# Altium integrated library Linear Technology Power Management LDO Linear Regulators.IntLib: 2339 symbols (part 76 of 131)
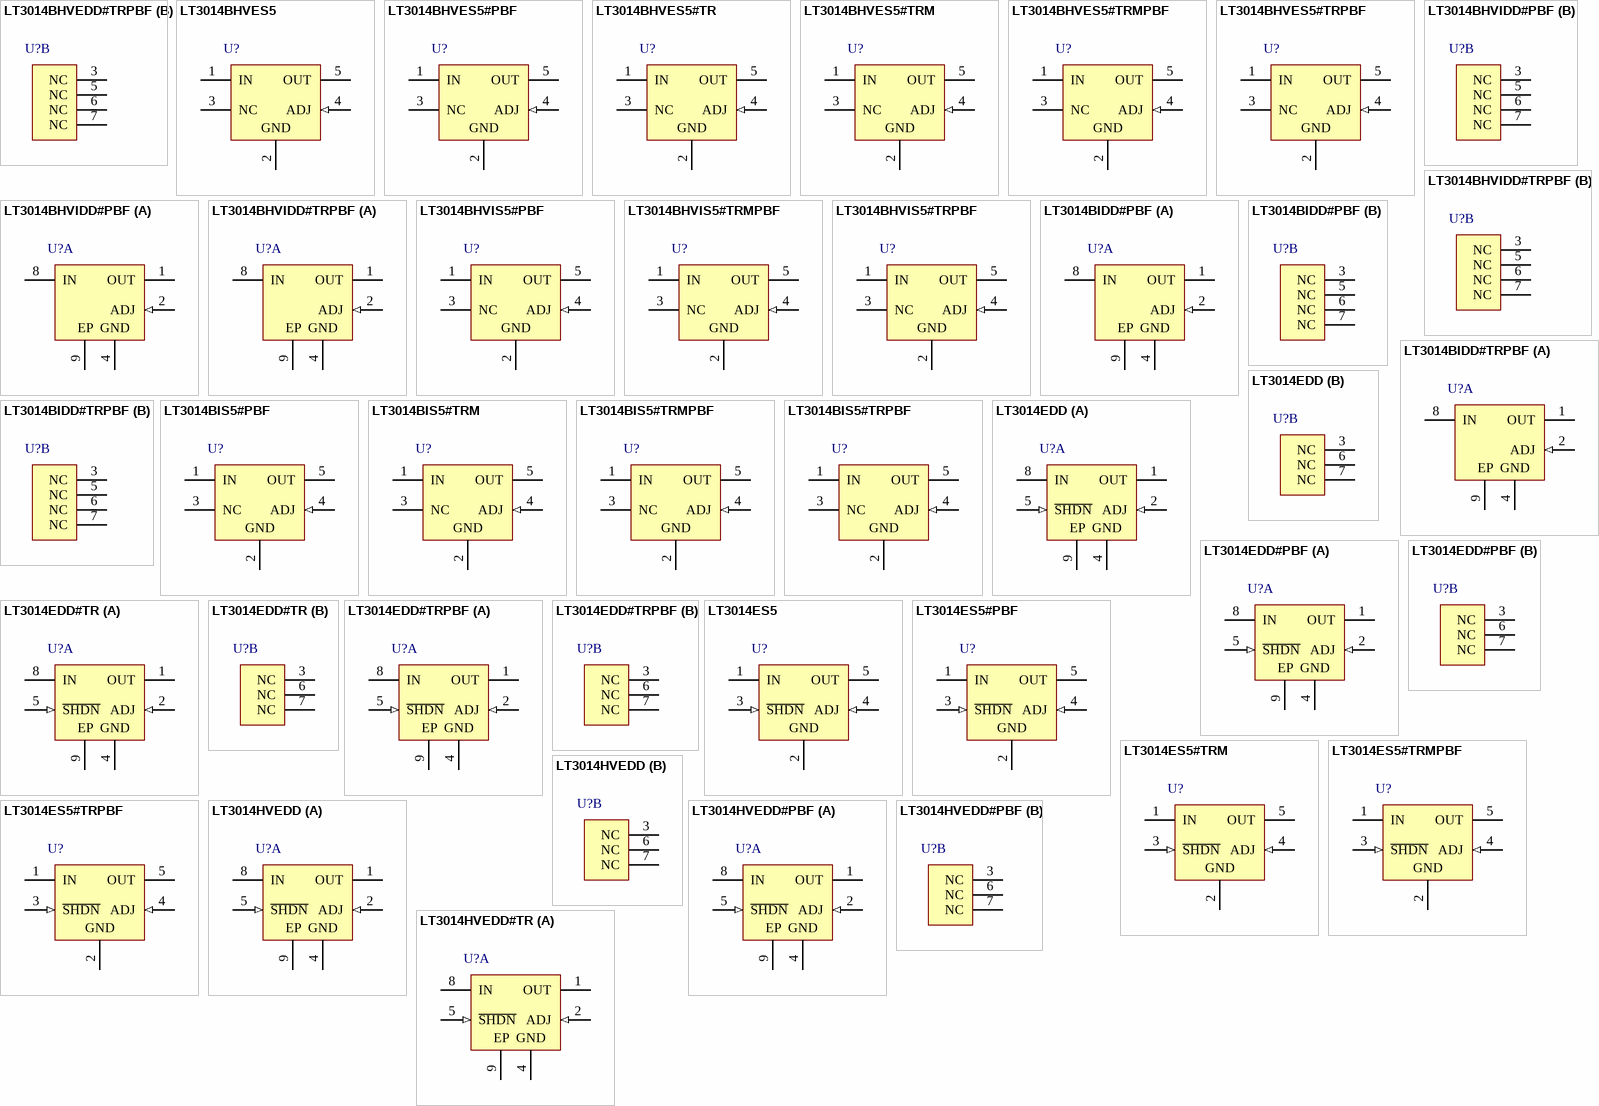
[diagram p144: symbols LT3014BHVEDD#TRPBF to LT3014HVEDD#TR]

## LT3014BHVES5
designator U?
20 mA, Low Dropout Micropower Linear Regulator, 3 to 80 V Vin, Adjustable Vout, 5-pin SOT23 (S5-5), -40 to 125 degC; Manufacturer: Linear Technology; PartNumber: LT3014BHVES5; Discrete Pass Element: no; Dropout Voltage(V): 0.35; Iout(mA): 20; Isupply(mA): 0.007; Noise(uV): 115; Number of Outputs: 1; Output Voltage: Adj; PSRR(dB): 70; Vin Max(V): 80; Vin Min(V): 3; Vout Max(V): 60; Vout Min(V): 1.22; DatasheetVersion: Rev. A; PackageVersion: Jun-10; PackageReference: S5-5; PackageDescription: 5-Pin Plastic TSOT-23, Body 1.63 x 2.90 mm, Pitch 0.95 mm; RoHS: FALSE; Mounting Technology: Surface Mount; Code_JEDEC: MO-193; ComponentLink1Description: Manufacturer URL; ComponentLink1URL: http://www.linear.com/; ComponentLink2Description: Datasheet; ComponentLink2URL: http://cds.linear.com/docs/en/datasheet/3014bfa.pdf; ComponentLink3Description: Package Specification; ComponentLink3URL: http://cds.linear.com/docs/en/packaging/SOT_5_05-08-1635.pdf
footprint LT-S5-5-TSOT-23_N (SOT23, 5-Leads, Body 2.90x1.63mm, Pitch 0.95mm, IPC Medium Density)
footprint LT-S5-5-TSOT-23_L (SOT23, 5-Leads, Body 2.90x1.63mm, Pitch 0.95mm, IPC High Density)
footprint LT-S5-5-TSOT-23_M (SOT23, 5-Leads, Body 2.90x1.63mm, Pitch 0.95mm, IPC Low Density)
pins: 1 IN (power) "Input. Power is supplied to the device through the IN pin. A bypass capacitor is required on this pin if the device is more than six inches away from the main input filter capacitor. In general, the output impedance of a (See Datasheet)", 2 GND (power) "Ground.", 3 NC "No Connect. No Connect pins may be floated, tied to IN or tied to GND.", 4 ADJ (in) "Adjust. This is the input to the error amplifier. This pin is internally clamped to +/-7V. It has a bias current of 4nA which flows into the pin (see curve of ADJ Pin Bias Current vs Temperature in the Typical Performance (See Datasheet)", 5 OUT (power) "Output. The output supplies power to the load. A minimum output capacitor of 0.47uF is required to prevent oscillations. Larger output capacitors will be required for applications with large transient loads to limit peak (See Datasheet)"

## LT3014BHVES5#PBF
designator U?
20 mA, Low Dropout Micropower Linear Regulator, 3 to 80 V Vin, Adjustable Vout, 5-pin SOT23 (S5-5), -40 to 125 degC, Pb-Free; Manufacturer: Linear Technology; PartNumber: LT3014BHVES5#PBF; Discrete Pass Element: no; Dropout Voltage(V): 0.35; Iout(mA): 20; Isupply(mA): 0.007; Noise(uV): 115; Number of Outputs: 1; Output Voltage: Adj; PSRR(dB): 70; Vin Max(V): 80; Vin Min(V): 3; Vout Max(V): 60; Vout Min(V): 1.22; DatasheetVersion: Rev. A; PackageVersion: Jun-10; PackageReference: S5-5; PackageDescription: 5-Pin Plastic TSOT-23, Body 1.63 x 2.90 mm, Pitch 0.95 mm; Supplier 1: Newark; Supplier Part Number 1: 78T3828; RoHS: TRUE; Mounting Technology: Surface Mount; Code_JEDEC: MO-193; ComponentLink1Description: Manufacturer URL; ComponentLink1URL: http://www.linear.com/; ComponentLink2Description: Datasheet; ComponentLink2URL: http://cds.linear.com/docs/en/datasheet/3014bfa.pdf; ComponentLink3Description: Package Specification; ComponentLink3URL: http://cds.linear.com/docs/en/packaging/SOT_5_05-08-1635.pdf
footprint LT-S5-5-TSOT-23_N (SOT23, 5-Leads, Body 2.90x1.63mm, Pitch 0.95mm, IPC Medium Density)
footprint LT-S5-5-TSOT-23_L (SOT23, 5-Leads, Body 2.90x1.63mm, Pitch 0.95mm, IPC High Density)
footprint LT-S5-5-TSOT-23_M (SOT23, 5-Leads, Body 2.90x1.63mm, Pitch 0.95mm, IPC Low Density)
pins: 1 IN (power) "Input. Power is supplied to the device through the IN pin. A bypass capacitor is required on this pin if the device is more than six inches away from the main input filter capacitor. In general, the output impedance of a (See Datasheet)", 2 GND (power) "Ground.", 3 NC "No Connect. No Connect pins may be floated, tied to IN or tied to GND.", 4 ADJ (in) "Adjust. This is the input to the error amplifier. This pin is internally clamped to +/-7V. It has a bias current of 4nA which flows into the pin (see curve of ADJ Pin Bias Current vs Temperature in the Typical Performance (See Datasheet)", 5 OUT (power) "Output. The output supplies power to the load. A minimum output capacitor of 0.47uF is required to prevent oscillations. Larger output capacitors will be required for applications with large transient loads to limit peak (See Datasheet)"

## LT3014BHVES5#TR
designator U?
20 mA, Low Dropout Micropower Linear Regulator, 3 to 80 V Vin, Adjustable Vout, 5-pin SOT23 (S5-5), -40 to 125 degC, Tape and Reel; Manufacturer: Linear Technology; PartNumber: LT3014BHVES5#TR; Discrete Pass Element: no; Dropout Voltage(V): 0.35; Iout(mA): 20; Isupply(mA): 0.007; Noise(uV): 115; Number of Outputs: 1; Output Voltage: Adj; PSRR(dB): 70; Vin Max(V): 80; Vin Min(V): 3; Vout Max(V): 60; Vout Min(V): 1.22; DatasheetVersion: Rev. A; PackageVersion: Jun-10; PackageReference: S5-5; PackageDescription: 5-Pin Plastic TSOT-23, Body 1.63 x 2.90 mm, Pitch 0.95 mm; Packing: Tape and Reel; RoHS: FALSE; Mounting Technology: Surface Mount; Code_JEDEC: MO-193; ComponentLink1Description: Manufacturer URL; ComponentLink1URL: http://www.linear.com/; ComponentLink2Description: Datasheet; ComponentLink2URL: http://cds.linear.com/docs/en/datasheet/3014bfa.pdf; ComponentLink3Description: Package Specification; ComponentLink3URL: http://cds.linear.com/docs/en/packaging/SOT_5_05-08-1635.pdf
footprint LT-S5-5-TSOT-23_N (SOT23, 5-Leads, Body 2.90x1.63mm, Pitch 0.95mm, IPC Medium Density)
footprint LT-S5-5-TSOT-23_L (SOT23, 5-Leads, Body 2.90x1.63mm, Pitch 0.95mm, IPC High Density)
footprint LT-S5-5-TSOT-23_M (SOT23, 5-Leads, Body 2.90x1.63mm, Pitch 0.95mm, IPC Low Density)
pins: 1 IN (power) "Input. Power is supplied to the device through the IN pin. A bypass capacitor is required on this pin if the device is more than six inches away from the main input filter capacitor. In general, the output impedance of a (See Datasheet)", 2 GND (power) "Ground.", 3 NC "No Connect. No Connect pins may be floated, tied to IN or tied to GND.", 4 ADJ (in) "Adjust. This is the input to the error amplifier. This pin is internally clamped to +/-7V. It has a bias current of 4nA which flows into the pin (see curve of ADJ Pin Bias Current vs Temperature in the Typical Performance (See Datasheet)", 5 OUT (power) "Output. The output supplies power to the load. A minimum output capacitor of 0.47uF is required to prevent oscillations. Larger output capacitors will be required for applications with large transient loads to limit peak (See Datasheet)"

## LT3014BHVES5#TRM
designator U?
20 mA, Low Dropout Micropower Linear Regulator, 3 to 80 V Vin, Adjustable Vout, 5-pin SOT23 (S5-5), -40 to 125 degC, Mini Tape and Reel; Manufacturer: Linear Technology; PartNumber: LT3014BHVES5#TRM; Discrete Pass Element: no; Dropout Voltage(V): 0.35; Iout(mA): 20; Isupply(mA): 0.007; Noise(uV): 115; Number of Outputs: 1; Output Voltage: Adj; PSRR(dB): 70; Vin Max(V): 80; Vin Min(V): 3; Vout Max(V): 60; Vout Min(V): 1.22; DatasheetVersion: Rev. A; PackageVersion: Jun-10; PackageReference: S5-5; PackageDescription: 5-Pin Plastic TSOT-23, Body 1.63 x 2.90 mm, Pitch 0.95 mm; Packing: Mini Tape and Reel; RoHS: FALSE; Mounting Technology: Surface Mount; Code_JEDEC: MO-193; ComponentLink1Description: Manufacturer URL; ComponentLink1URL: http://www.linear.com/; ComponentLink2Description: Datasheet; ComponentLink2URL: http://cds.linear.com/docs/en/datasheet/3014bfa.pdf; ComponentLink3Description: Package Specification; ComponentLink3URL: http://cds.linear.com/docs/en/packaging/SOT_5_05-08-1635.pdf
footprint LT-S5-5-TSOT-23_N (SOT23, 5-Leads, Body 2.90x1.63mm, Pitch 0.95mm, IPC Medium Density)
footprint LT-S5-5-TSOT-23_L (SOT23, 5-Leads, Body 2.90x1.63mm, Pitch 0.95mm, IPC High Density)
footprint LT-S5-5-TSOT-23_M (SOT23, 5-Leads, Body 2.90x1.63mm, Pitch 0.95mm, IPC Low Density)
pins: 1 IN (power) "Input. Power is supplied to the device through the IN pin. A bypass capacitor is required on this pin if the device is more than six inches away from the main input filter capacitor. In general, the output impedance of a (See Datasheet)", 2 GND (power) "Ground.", 3 NC "No Connect. No Connect pins may be floated, tied to IN or tied to GND.", 4 ADJ (in) "Adjust. This is the input to the error amplifier. This pin is internally clamped to +/-7V. It has a bias current of 4nA which flows into the pin (see curve of ADJ Pin Bias Current vs Temperature in the Typical Performance (See Datasheet)", 5 OUT (power) "Output. The output supplies power to the load. A minimum output capacitor of 0.47uF is required to prevent oscillations. Larger output capacitors will be required for applications with large transient loads to limit peak (See Datasheet)"

## LT3014BHVES5#TRMPBF
designator U?
20 mA, Low Dropout Micropower Linear Regulator, 3 to 80 V Vin, Adjustable Vout, 5-pin SOT23 (S5-5), -40 to 125 degC, Pb-Free, Mini Tape and Reel; Manufacturer: Linear Technology; PartNumber: LT3014BHVES5#TRMPBF; Discrete Pass Element: no; Dropout Voltage(V): 0.35; Iout(mA): 20; Isupply(mA): 0.007; Noise(uV): 115; Number of Outputs: 1; Output Voltage: Adj; PSRR(dB): 70; Vin Max(V): 80; Vin Min(V): 3; Vout Max(V): 60; Vout Min(V): 1.22; DatasheetVersion: Rev. A; PackageVersion: Jun-10; PackageReference: S5-5; PackageDescription: 5-Pin Plastic TSOT-23, Body 1.63 x 2.90 mm, Pitch 0.95 mm; Supplier 1: Digi-Key; Supplier Part Number 1: LT3014BHVES5#TRMPBF-ND; Supplier 2: Newark; Supplier Part Number 2: 57M7900; Packing: Mini Tape and Reel; RoHS: TRUE; Mounting Technology: Surface Mount; Code_JEDEC: MO-193; ComponentLink1Description: Manufacturer URL; ComponentLink1URL: http://www.linear.com/; ComponentLink2Description: Datasheet; ComponentLink2URL: http://cds.linear.com/docs/en/datasheet/3014bfa.pdf; ComponentLink3Description: Package Specification; ComponentLink3URL: http://cds.linear.com/docs/en/packaging/SOT_5_05-08-1635.pdf
footprint LT-S5-5-TSOT-23_N (SOT23, 5-Leads, Body 2.90x1.63mm, Pitch 0.95mm, IPC Medium Density)
footprint LT-S5-5-TSOT-23_L (SOT23, 5-Leads, Body 2.90x1.63mm, Pitch 0.95mm, IPC High Density)
footprint LT-S5-5-TSOT-23_M (SOT23, 5-Leads, Body 2.90x1.63mm, Pitch 0.95mm, IPC Low Density)
pins: 1 IN (power) "Input. Power is supplied to the device through the IN pin. A bypass capacitor is required on this pin if the device is more than six inches away from the main input filter capacitor. In general, the output impedance of a (See Datasheet)", 2 GND (power) "Ground.", 3 NC "No Connect. No Connect pins may be floated, tied to IN or tied to GND.", 4 ADJ (in) "Adjust. This is the input to the error amplifier. This pin is internally clamped to +/-7V. It has a bias current of 4nA which flows into the pin (see curve of ADJ Pin Bias Current vs Temperature in the Typical Performance (See Datasheet)", 5 OUT (power) "Output. The output supplies power to the load. A minimum output capacitor of 0.47uF is required to prevent oscillations. Larger output capacitors will be required for applications with large transient loads to limit peak (See Datasheet)"

## LT3014BHVES5#TRPBF
designator U?
20 mA, Low Dropout Micropower Linear Regulator, 3 to 80 V Vin, Adjustable Vout, 5-pin SOT23 (S5-5), -40 to 125 degC, Pb-Free, Tape and Reel; Manufacturer: Linear Technology; PartNumber: LT3014BHVES5#TRPBF; Discrete Pass Element: no; Dropout Voltage(V): 0.35; Iout(mA): 20; Isupply(mA): 0.007; Noise(uV): 115; Number of Outputs: 1; Output Voltage: Adj; PSRR(dB): 70; Vin Max(V): 80; Vin Min(V): 3; Vout Max(V): 60; Vout Min(V): 1.22; DatasheetVersion: Rev. A; PackageVersion: Jun-10; PackageReference: S5-5; PackageDescription: 5-Pin Plastic TSOT-23, Body 1.63 x 2.90 mm, Pitch 0.95 mm; Supplier 1: Digi-Key; Supplier Part Number 1: LT3014BHVES5#TRPBF-ND; Supplier 2: Newark; Supplier Part Number 2: 57M7901; Packing: Tape and Reel; RoHS: TRUE; Mounting Technology: Surface Mount; Code_JEDEC: MO-193; ComponentLink1Description: Manufacturer URL; ComponentLink1URL: http://www.linear.com/; ComponentLink2Description: Datasheet; ComponentLink2URL: http://cds.linear.com/docs/en/datasheet/3014bfa.pdf; ComponentLink3Description: Package Specification; ComponentLink3URL: http://cds.linear.com/docs/en/packaging/SOT_5_05-08-1635.pdf
footprint LT-S5-5-TSOT-23_N (SOT23, 5-Leads, Body 2.90x1.63mm, Pitch 0.95mm, IPC Medium Density)
footprint LT-S5-5-TSOT-23_L (SOT23, 5-Leads, Body 2.90x1.63mm, Pitch 0.95mm, IPC High Density)
footprint LT-S5-5-TSOT-23_M (SOT23, 5-Leads, Body 2.90x1.63mm, Pitch 0.95mm, IPC Low Density)
pins: 1 IN (power) "Input. Power is supplied to the device through the IN pin. A bypass capacitor is required on this pin if the device is more than six inches away from the main input filter capacitor. In general, the output impedance of a (See Datasheet)", 2 GND (power) "Ground.", 3 NC "No Connect. No Connect pins may be floated, tied to IN or tied to GND.", 4 ADJ (in) "Adjust. This is the input to the error amplifier. This pin is internally clamped to +/-7V. It has a bias current of 4nA which flows into the pin (see curve of ADJ Pin Bias Current vs Temperature in the Typical Performance (See Datasheet)", 5 OUT (power) "Output. The output supplies power to the load. A minimum output capacitor of 0.47uF is required to prevent oscillations. Larger output capacitors will be required for applications with large transient loads to limit peak (See Datasheet)"

## LT3014BHVIDD#PBF
designator U?
20 mA, Low Dropout Micropower Linear Regulator, 3 to 80 V Vin, Adjustable Vout, 8-pin SON (DD-8), -40 to 125 degC, Pb-Free; Manufacturer: Linear Technology; PartNumber: LT3014BHVIDD#PBF; Discrete Pass Element: no; Dropout Voltage(V): 0.35; Iout(mA): 20; Isupply(mA): 0.007; Noise(uV): 115; Number of Outputs: 1; Output Voltage: Adj; PSRR(dB): 70; Vin Max(V): 80; Vin Min(V): 3; Vout Max(V): 60; Vout Min(V): 1.22; DatasheetVersion: Rev. A; PackageVersion: Jun-10; PackageReference: DD-8; PackageDescription: 8-Pin Plastic DFN, Body 3 x 3 mm, Pitch 0.5 mm; Supplier 1: Digi-Key; Supplier Part Number 1: LT3014BHVIDD#PBF-ND; RoHS: TRUE; Mounting Technology: Surface Mount; Code_JEDEC: MO-229; ComponentLink1Description: Manufacturer URL; ComponentLink1URL: http://www.linear.com/; ComponentLink2Description: Datasheet; ComponentLink2URL: http://cds.linear.com/docs/en/datasheet/3014bfa.pdf; ComponentLink3Description: Package Specification; ComponentLink3URL: http://cds.linear.com/docs/en/packaging/DFN_8_05-08-1698.pdf
footprint LT-DD-8_V (SON, 8-Leads, Body 3x3mm, Pitch 0.5mm, Thermal Pad 1.65x2.38 mm, IPC Low Density)
part A pins: 1 OUT (power) "Output. The output supplies power to the load. A minimum output capacitor of 0.47uF is required to prevent oscillations. Larger output capacitors will be required for applications with large transient loads to limit peak (See Datasheet)", 2 ADJ (in) "Adjust. This is the input to the error amplifier. This pin is internally clamped to +/-7V. It has a bias current of 4nA which flows into the pin (see curve of ADJ Pin Bias Current vs Temperature in the Typical Performance (See Datasheet)", 4 GND (power) "Ground.", 8 IN (power) "Input. Power is supplied to the device through the IN pin. A bypass capacitor is required on this pin if the device is more than six inches away from the main input filter capacitor. In general, the output impedance of a (See Datasheet)", 9 EP (power)
part B pins: 3 NC "No Connect. No Connect pins may be floated, tied to IN or tied to GND.", 5 NC "No Connect. No Connect pins may be floated, tied to IN or tied to GND.", 6 NC "No Connect. No Connect pins may be floated, tied to IN or tied to GND.", 7 NC "No Connect. No Connect pins may be floated, tied to IN or tied to GND."

## LT3014BHVIDD#TRPBF
designator U?
20 mA, Low Dropout Micropower Linear Regulator, 3 to 80 V Vin, Adjustable Vout, 8-pin SON (DD-8), -40 to 125 degC, Pb-Free, Tape and Reel; Manufacturer: Linear Technology; PartNumber: LT3014BHVIDD#TRPBF; Discrete Pass Element: no; Dropout Voltage(V): 0.35; Iout(mA): 20; Isupply(mA): 0.007; Noise(uV): 115; Number of Outputs: 1; Output Voltage: Adj; PSRR(dB): 70; Vin Max(V): 80; Vin Min(V): 3; Vout Max(V): 60; Vout Min(V): 1.22; DatasheetVersion: Rev. A; PackageVersion: Jun-10; PackageReference: DD-8; PackageDescription: 8-Pin Plastic DFN, Body 3 x 3 mm, Pitch 0.5 mm; Supplier 1: Digi-Key; Supplier Part Number 1: LT3014BHVIDD#TRPBF-ND; Packing: Tape and Reel; RoHS: TRUE; Mounting Technology: Surface Mount; Code_JEDEC: MO-229; ComponentLink1Description: Manufacturer URL; ComponentLink1URL: http://www.linear.com/; ComponentLink2Description: Datasheet; ComponentLink2URL: http://cds.linear.com/docs/en/datasheet/3014bfa.pdf; ComponentLink3Description: Package Specification; ComponentLink3URL: http://cds.linear.com/docs/en/packaging/DFN_8_05-08-1698.pdf
footprint LT-DD-8_V (SON, 8-Leads, Body 3x3mm, Pitch 0.5mm, Thermal Pad 1.65x2.38 mm, IPC Low Density)
part A pins: 1 OUT (power) "Output. The output supplies power to the load. A minimum output capacitor of 0.47uF is required to prevent oscillations. Larger output capacitors will be required for applications with large transient loads to limit peak (See Datasheet)", 2 ADJ (in) "Adjust. This is the input to the error amplifier. This pin is internally clamped to +/-7V. It has a bias current of 4nA which flows into the pin (see curve of ADJ Pin Bias Current vs Temperature in the Typical Performance (See Datasheet)", 4 GND (power) "Ground.", 8 IN (power) "Input. Power is supplied to the device through the IN pin. A bypass capacitor is required on this pin if the device is more than six inches away from the main input filter capacitor. In general, the output impedance of a (See Datasheet)", 9 EP (power)
part B pins: 3 NC "No Connect. No Connect pins may be floated, tied to IN or tied to GND.", 5 NC "No Connect. No Connect pins may be floated, tied to IN or tied to GND.", 6 NC "No Connect. No Connect pins may be floated, tied to IN or tied to GND.", 7 NC "No Connect. No Connect pins may be floated, tied to IN or tied to GND."

## LT3014BHVIS5#PBF
designator U?
20 mA, Low Dropout Micropower Linear Regulator, 3 to 80 V Vin, Adjustable Vout, 5-pin SOT23 (S5-5), -40 to 125 degC, Pb-Free; Manufacturer: Linear Technology; PartNumber: LT3014BHVIS5#PBF; Discrete Pass Element: no; Dropout Voltage(V): 0.35; Iout(mA): 20; Isupply(mA): 0.007; Noise(uV): 115; Number of Outputs: 1; Output Voltage: Adj; PSRR(dB): 70; Vin Max(V): 80; Vin Min(V): 3; Vout Max(V): 60; Vout Min(V): 1.22; DatasheetVersion: Rev. A; PackageVersion: Jun-10; PackageReference: S5-5; PackageDescription: 5-Pin Plastic TSOT-23, Body 1.63 x 2.90 mm, Pitch 0.95 mm; RoHS: TRUE; Mounting Technology: Surface Mount; Code_JEDEC: MO-193; ComponentLink1Description: Manufacturer URL; ComponentLink1URL: http://www.linear.com/; ComponentLink2Description: Datasheet; ComponentLink2URL: http://cds.linear.com/docs/en/datasheet/3014bfa.pdf; ComponentLink3Description: Package Specification; ComponentLink3URL: http://cds.linear.com/docs/en/packaging/SOT_5_05-08-1635.pdf
footprint LT-S5-5-TSOT-23_N (SOT23, 5-Leads, Body 2.90x1.63mm, Pitch 0.95mm, IPC Medium Density)
footprint LT-S5-5-TSOT-23_L (SOT23, 5-Leads, Body 2.90x1.63mm, Pitch 0.95mm, IPC High Density)
footprint LT-S5-5-TSOT-23_M (SOT23, 5-Leads, Body 2.90x1.63mm, Pitch 0.95mm, IPC Low Density)
pins: 1 IN (power) "Input. Power is supplied to the device through the IN pin. A bypass capacitor is required on this pin if the device is more than six inches away from the main input filter capacitor. In general, the output impedance of a (See Datasheet)", 2 GND (power) "Ground.", 3 NC "No Connect. No Connect pins may be floated, tied to IN or tied to GND.", 4 ADJ (in) "Adjust. This is the input to the error amplifier. This pin is internally clamped to +/-7V. It has a bias current of 4nA which flows into the pin (see curve of ADJ Pin Bias Current vs Temperature in the Typical Performance (See Datasheet)", 5 OUT (power) "Output. The output supplies power to the load. A minimum output capacitor of 0.47uF is required to prevent oscillations. Larger output capacitors will be required for applications with large transient loads to limit peak (See Datasheet)"

## LT3014BHVIS5#TRMPBF
designator U?
20 mA, Low Dropout Micropower Linear Regulator, 3 to 80 V Vin, Adjustable Vout, 5-pin SOT23 (S5-5), -40 to 125 degC, Pb-Free, Mini Tape and Reel; Manufacturer: Linear Technology; PartNumber: LT3014BHVIS5#TRMPBF; Discrete Pass Element: no; Dropout Voltage(V): 0.35; Iout(mA): 20; Isupply(mA): 0.007; Noise(uV): 115; Number of Outputs: 1; Output Voltage: Adj; PSRR(dB): 70; Vin Max(V): 80; Vin Min(V): 3; Vout Max(V): 60; Vout Min(V): 1.22; DatasheetVersion: Rev. A; PackageVersion: Jun-10; PackageReference: S5-5; PackageDescription: 5-Pin Plastic TSOT-23, Body 1.63 x 2.90 mm, Pitch 0.95 mm; Supplier 1: Digi-Key; Supplier Part Number 1: LT3014BHVIS5#TRMPBF-ND; Supplier 2: Newark; Supplier Part Number 2: 07P8419; Packing: Mini Tape and Reel; RoHS: TRUE; Mounting Technology: Surface Mount; Code_JEDEC: MO-193; ComponentLink1Description: Manufacturer URL; ComponentLink1URL: http://www.linear.com/; ComponentLink2Description: Datasheet; ComponentLink2URL: http://cds.linear.com/docs/en/datasheet/3014bfa.pdf; ComponentLink3Description: Package Specification; ComponentLink3URL: http://cds.linear.com/docs/en/packaging/SOT_5_05-08-1635.pdf
footprint LT-S5-5-TSOT-23_N (SOT23, 5-Leads, Body 2.90x1.63mm, Pitch 0.95mm, IPC Medium Density)
footprint LT-S5-5-TSOT-23_L (SOT23, 5-Leads, Body 2.90x1.63mm, Pitch 0.95mm, IPC High Density)
footprint LT-S5-5-TSOT-23_M (SOT23, 5-Leads, Body 2.90x1.63mm, Pitch 0.95mm, IPC Low Density)
pins: 1 IN (power) "Input. Power is supplied to the device through the IN pin. A bypass capacitor is required on this pin if the device is more than six inches away from the main input filter capacitor. In general, the output impedance of a (See Datasheet)", 2 GND (power) "Ground.", 3 NC "No Connect. No Connect pins may be floated, tied to IN or tied to GND.", 4 ADJ (in) "Adjust. This is the input to the error amplifier. This pin is internally clamped to +/-7V. It has a bias current of 4nA which flows into the pin (see curve of ADJ Pin Bias Current vs Temperature in the Typical Performance (See Datasheet)", 5 OUT (power) "Output. The output supplies power to the load. A minimum output capacitor of 0.47uF is required to prevent oscillations. Larger output capacitors will be required for applications with large transient loads to limit peak (See Datasheet)"

## LT3014BHVIS5#TRPBF
designator U?
20 mA, Low Dropout Micropower Linear Regulator, 3 to 80 V Vin, Adjustable Vout, 5-pin SOT23 (S5-5), -40 to 125 degC, Pb-Free, Tape and Reel; Manufacturer: Linear Technology; PartNumber: LT3014BHVIS5#TRPBF; Discrete Pass Element: no; Dropout Voltage(V): 0.35; Iout(mA): 20; Isupply(mA): 0.007; Noise(uV): 115; Number of Outputs: 1; Output Voltage: Adj; PSRR(dB): 70; Vin Max(V): 80; Vin Min(V): 3; Vout Max(V): 60; Vout Min(V): 1.22; DatasheetVersion: Rev. A; PackageVersion: Jun-10; PackageReference: S5-5; PackageDescription: 5-Pin Plastic TSOT-23, Body 1.63 x 2.90 mm, Pitch 0.95 mm; Supplier 1: Digi-Key; Supplier Part Number 1: LT3014BHVIS5#TRPBF-ND; Packing: Tape and Reel; RoHS: TRUE; Mounting Technology: Surface Mount; Code_JEDEC: MO-193; ComponentLink1Description: Manufacturer URL; ComponentLink1URL: http://www.linear.com/; ComponentLink2Description: Datasheet; ComponentLink2URL: http://cds.linear.com/docs/en/datasheet/3014bfa.pdf; ComponentLink3Description: Package Specification; ComponentLink3URL: http://cds.linear.com/docs/en/packaging/SOT_5_05-08-1635.pdf
footprint LT-S5-5-TSOT-23_N (SOT23, 5-Leads, Body 2.90x1.63mm, Pitch 0.95mm, IPC Medium Density)
footprint LT-S5-5-TSOT-23_L (SOT23, 5-Leads, Body 2.90x1.63mm, Pitch 0.95mm, IPC High Density)
footprint LT-S5-5-TSOT-23_M (SOT23, 5-Leads, Body 2.90x1.63mm, Pitch 0.95mm, IPC Low Density)
pins: 1 IN (power) "Input. Power is supplied to the device through the IN pin. A bypass capacitor is required on this pin if the device is more than six inches away from the main input filter capacitor. In general, the output impedance of a (See Datasheet)", 2 GND (power) "Ground.", 3 NC "No Connect. No Connect pins may be floated, tied to IN or tied to GND.", 4 ADJ (in) "Adjust. This is the input to the error amplifier. This pin is internally clamped to +/-7V. It has a bias current of 4nA which flows into the pin (see curve of ADJ Pin Bias Current vs Temperature in the Typical Performance (See Datasheet)", 5 OUT (power) "Output. The output supplies power to the load. A minimum output capacitor of 0.47uF is required to prevent oscillations. Larger output capacitors will be required for applications with large transient loads to limit peak (See Datasheet)"

## LT3014BIDD#PBF
designator U?
20 mA, Low Dropout Micropower Linear Regulator, 3 to 80 V Vin, Adjustable Vout, 8-pin SON (DD-8), -40 to 125 degC, Pb-Free; Manufacturer: Linear Technology; PartNumber: LT3014BIDD#PBF; Discrete Pass Element: no; Dropout Voltage(V): 0.35; Iout(mA): 20; Isupply(mA): 0.007; Noise(uV): 115; Number of Outputs: 1; Output Voltage: Adj; PSRR(dB): 70; Vin Max(V): 80; Vin Min(V): 3; Vout Max(V): 60; Vout Min(V): 1.22; DatasheetVersion: Rev. A; PackageVersion: Jun-10; PackageReference: DD-8; PackageDescription: 8-Pin Plastic DFN, Body 3 x 3 mm, Pitch 0.5 mm; Supplier 1: Digi-Key; Supplier Part Number 1: LT3014BIDD#PBF-ND; RoHS: TRUE; Mounting Technology: Surface Mount; Code_JEDEC: MO-229; ComponentLink1Description: Manufacturer URL; ComponentLink1URL: http://www.linear.com/; ComponentLink2Description: Datasheet; ComponentLink2URL: http://cds.linear.com/docs/en/datasheet/3014bfa.pdf; ComponentLink3Description: Package Specification; ComponentLink3URL: http://cds.linear.com/docs/en/packaging/DFN_8_05-08-1698.pdf
footprint LT-DD-8_V (SON, 8-Leads, Body 3x3mm, Pitch 0.5mm, Thermal Pad 1.65x2.38 mm, IPC Low Density)
part A pins: 1 OUT (power) "Output. The output supplies power to the load. A minimum output capacitor of 0.47uF is required to prevent oscillations. Larger output capacitors will be required for applications with large transient loads to limit peak (See Datasheet)", 2 ADJ (in) "Adjust. This is the input to the error amplifier. This pin is internally clamped to +/-7V. It has a bias current of 4nA which flows into the pin (see curve of ADJ Pin Bias Current vs Temperature in the Typical Performance (See Datasheet)", 4 GND (power) "Ground.", 8 IN (power) "Input. Power is supplied to the device through the IN pin. A bypass capacitor is required on this pin if the device is more than six inches away from the main input filter capacitor. In general, the output impedance of a (See Datasheet)", 9 EP (power)
part B pins: 3 NC "No Connect. No Connect pins may be floated, tied to IN or tied to GND.", 5 NC "No Connect. No Connect pins may be floated, tied to IN or tied to GND.", 6 NC "No Connect. No Connect pins may be floated, tied to IN or tied to GND.", 7 NC "No Connect. No Connect pins may be floated, tied to IN or tied to GND."

## LT3014BIDD#TRPBF
designator U?
20 mA, Low Dropout Micropower Linear Regulator, 3 to 80 V Vin, Adjustable Vout, 8-pin SON (DD-8), -40 to 125 degC, Pb-Free, Tape and Reel; Manufacturer: Linear Technology; PartNumber: LT3014BIDD#TRPBF; Discrete Pass Element: no; Dropout Voltage(V): 0.35; Iout(mA): 20; Isupply(mA): 0.007; Noise(uV): 115; Number of Outputs: 1; Output Voltage: Adj; PSRR(dB): 70; Vin Max(V): 80; Vin Min(V): 3; Vout Max(V): 60; Vout Min(V): 1.22; DatasheetVersion: Rev. A; PackageVersion: Jun-10; PackageReference: DD-8; PackageDescription: 8-Pin Plastic DFN, Body 3 x 3 mm, Pitch 0.5 mm; Supplier 1: Digi-Key; Supplier Part Number 1: LT3014BIDD#TRPBF-ND; Packing: Tape and Reel; RoHS: TRUE; Mounting Technology: Surface Mount; Code_JEDEC: MO-229; ComponentLink1Description: Manufacturer URL; ComponentLink1URL: http://www.linear.com/; ComponentLink2Description: Datasheet; ComponentLink2URL: http://cds.linear.com/docs/en/datasheet/3014bfa.pdf; ComponentLink3Description: Package Specification; ComponentLink3URL: http://cds.linear.com/docs/en/packaging/DFN_8_05-08-1698.pdf
footprint LT-DD-8_V (SON, 8-Leads, Body 3x3mm, Pitch 0.5mm, Thermal Pad 1.65x2.38 mm, IPC Low Density)
part A pins: 1 OUT (power) "Output. The output supplies power to the load. A minimum output capacitor of 0.47uF is required to prevent oscillations. Larger output capacitors will be required for applications with large transient loads to limit peak (See Datasheet)", 2 ADJ (in) "Adjust. This is the input to the error amplifier. This pin is internally clamped to +/-7V. It has a bias current of 4nA which flows into the pin (see curve of ADJ Pin Bias Current vs Temperature in the Typical Performance (See Datasheet)", 4 GND (power) "Ground.", 8 IN (power) "Input. Power is supplied to the device through the IN pin. A bypass capacitor is required on this pin if the device is more than six inches away from the main input filter capacitor. In general, the output impedance of a (See Datasheet)", 9 EP (power)
part B pins: 3 NC "No Connect. No Connect pins may be floated, tied to IN or tied to GND.", 5 NC "No Connect. No Connect pins may be floated, tied to IN or tied to GND.", 6 NC "No Connect. No Connect pins may be floated, tied to IN or tied to GND.", 7 NC "No Connect. No Connect pins may be floated, tied to IN or tied to GND."

## LT3014BIS5#PBF
designator U?
20 mA, Low Dropout Micropower Linear Regulator, 3 to 80 V Vin, Adjustable Vout, 5-pin SOT23 (S5-5), -40 to 125 degC, Pb-Free; Manufacturer: Linear Technology; PartNumber: LT3014BIS5#PBF; Discrete Pass Element: no; Dropout Voltage(V): 0.35; Iout(mA): 20; Isupply(mA): 0.007; Noise(uV): 115; Number of Outputs: 1; Output Voltage: Adj; PSRR(dB): 70; Vin Max(V): 80; Vin Min(V): 3; Vout Max(V): 60; Vout Min(V): 1.22; DatasheetVersion: Rev. A; PackageVersion: Jun-10; PackageReference: S5-5; PackageDescription: 5-Pin Plastic TSOT-23, Body 1.63 x 2.90 mm, Pitch 0.95 mm; Supplier 1: Newark; Supplier Part Number 1: 78T3830; RoHS: TRUE; Mounting Technology: Surface Mount; Code_JEDEC: MO-193; ComponentLink1Description: Manufacturer URL; ComponentLink1URL: http://www.linear.com/; ComponentLink2Description: Datasheet; ComponentLink2URL: http://cds.linear.com/docs/en/datasheet/3014bfa.pdf; ComponentLink3Description: Package Specification; ComponentLink3URL: http://cds.linear.com/docs/en/packaging/SOT_5_05-08-1635.pdf
footprint LT-S5-5-TSOT-23_N (SOT23, 5-Leads, Body 2.90x1.63mm, Pitch 0.95mm, IPC Medium Density)
footprint LT-S5-5-TSOT-23_L (SOT23, 5-Leads, Body 2.90x1.63mm, Pitch 0.95mm, IPC High Density)
footprint LT-S5-5-TSOT-23_M (SOT23, 5-Leads, Body 2.90x1.63mm, Pitch 0.95mm, IPC Low Density)
pins: 1 IN (power) "Input. Power is supplied to the device through the IN pin. A bypass capacitor is required on this pin if the device is more than six inches away from the main input filter capacitor. In general, the output impedance of a (See Datasheet)", 2 GND (power) "Ground.", 3 NC "No Connect. No Connect pins may be floated, tied to IN or tied to GND.", 4 ADJ (in) "Adjust. This is the input to the error amplifier. This pin is internally clamped to +/-7V. It has a bias current of 4nA which flows into the pin (see curve of ADJ Pin Bias Current vs Temperature in the Typical Performance (See Datasheet)", 5 OUT (power) "Output. The output supplies power to the load. A minimum output capacitor of 0.47uF is required to prevent oscillations. Larger output capacitors will be required for applications with large transient loads to limit peak (See Datasheet)"

## LT3014BIS5#TRM
designator U?
20 mA, Low Dropout Micropower Linear Regulator, 3 to 80 V Vin, Adjustable Vout, 5-pin SOT23 (S5-5), -40 to 125 degC, Mini Tape and Reel; Manufacturer: Linear Technology; PartNumber: LT3014BIS5#TRM; Discrete Pass Element: no; Dropout Voltage(V): 0.35; Iout(mA): 20; Isupply(mA): 0.007; Noise(uV): 115; Number of Outputs: 1; Output Voltage: Adj; PSRR(dB): 70; Vin Max(V): 80; Vin Min(V): 3; Vout Max(V): 60; Vout Min(V): 1.22; DatasheetVersion: Rev. A; PackageVersion: Jun-10; PackageReference: S5-5; PackageDescription: 5-Pin Plastic TSOT-23, Body 1.63 x 2.90 mm, Pitch 0.95 mm; Packing: Mini Tape and Reel; RoHS: FALSE; Mounting Technology: Surface Mount; Code_JEDEC: MO-193; ComponentLink1Description: Manufacturer URL; ComponentLink1URL: http://www.linear.com/; ComponentLink2Description: Datasheet; ComponentLink2URL: http://cds.linear.com/docs/en/datasheet/3014bfa.pdf; ComponentLink3Description: Package Specification; ComponentLink3URL: http://cds.linear.com/docs/en/packaging/SOT_5_05-08-1635.pdf
footprint LT-S5-5-TSOT-23_N (SOT23, 5-Leads, Body 2.90x1.63mm, Pitch 0.95mm, IPC Medium Density)
footprint LT-S5-5-TSOT-23_L (SOT23, 5-Leads, Body 2.90x1.63mm, Pitch 0.95mm, IPC High Density)
footprint LT-S5-5-TSOT-23_M (SOT23, 5-Leads, Body 2.90x1.63mm, Pitch 0.95mm, IPC Low Density)
pins: 1 IN (power) "Input. Power is supplied to the device through the IN pin. A bypass capacitor is required on this pin if the device is more than six inches away from the main input filter capacitor. In general, the output impedance of a (See Datasheet)", 2 GND (power) "Ground.", 3 NC "No Connect. No Connect pins may be floated, tied to IN or tied to GND.", 4 ADJ (in) "Adjust. This is the input to the error amplifier. This pin is internally clamped to +/-7V. It has a bias current of 4nA which flows into the pin (see curve of ADJ Pin Bias Current vs Temperature in the Typical Performance (See Datasheet)", 5 OUT (power) "Output. The output supplies power to the load. A minimum output capacitor of 0.47uF is required to prevent oscillations. Larger output capacitors will be required for applications with large transient loads to limit peak (See Datasheet)"

## LT3014BIS5#TRMPBF
designator U?
20 mA, Low Dropout Micropower Linear Regulator, 3 to 80 V Vin, Adjustable Vout, 5-pin SOT23 (S5-5), -40 to 125 degC, Pb-Free, Mini Tape and Reel; Manufacturer: Linear Technology; PartNumber: LT3014BIS5#TRMPBF; Discrete Pass Element: no; Dropout Voltage(V): 0.35; Iout(mA): 20; Isupply(mA): 0.007; Noise(uV): 115; Number of Outputs: 1; Output Voltage: Adj; PSRR(dB): 70; Vin Max(V): 80; Vin Min(V): 3; Vout Max(V): 60; Vout Min(V): 1.22; DatasheetVersion: Rev. A; PackageVersion: Jun-10; PackageReference: S5-5; PackageDescription: 5-Pin Plastic TSOT-23, Body 1.63 x 2.90 mm, Pitch 0.95 mm; Supplier 1: Digi-Key; Supplier Part Number 1: LT3014BIS5#TRMPBF-ND; Supplier 2: Newark; Supplier Part Number 2: 01N6445; Packing: Mini Tape and Reel; RoHS: TRUE; Mounting Technology: Surface Mount; Code_JEDEC: MO-193; ComponentLink1Description: Manufacturer URL; ComponentLink1URL: http://www.linear.com/; ComponentLink2Description: Datasheet; ComponentLink2URL: http://cds.linear.com/docs/en/datasheet/3014bfa.pdf; ComponentLink3Description: Package Specification; ComponentLink3URL: http://cds.linear.com/docs/en/packaging/SOT_5_05-08-1635.pdf
footprint LT-S5-5-TSOT-23_N (SOT23, 5-Leads, Body 2.90x1.63mm, Pitch 0.95mm, IPC Medium Density)
footprint LT-S5-5-TSOT-23_L (SOT23, 5-Leads, Body 2.90x1.63mm, Pitch 0.95mm, IPC High Density)
footprint LT-S5-5-TSOT-23_M (SOT23, 5-Leads, Body 2.90x1.63mm, Pitch 0.95mm, IPC Low Density)
pins: 1 IN (power) "Input. Power is supplied to the device through the IN pin. A bypass capacitor is required on this pin if the device is more than six inches away from the main input filter capacitor. In general, the output impedance of a (See Datasheet)", 2 GND (power) "Ground.", 3 NC "No Connect. No Connect pins may be floated, tied to IN or tied to GND.", 4 ADJ (in) "Adjust. This is the input to the error amplifier. This pin is internally clamped to +/-7V. It has a bias current of 4nA which flows into the pin (see curve of ADJ Pin Bias Current vs Temperature in the Typical Performance (See Datasheet)", 5 OUT (power) "Output. The output supplies power to the load. A minimum output capacitor of 0.47uF is required to prevent oscillations. Larger output capacitors will be required for applications with large transient loads to limit peak (See Datasheet)"

## LT3014BIS5#TRPBF
designator U?
20 mA, Low Dropout Micropower Linear Regulator, 3 to 80 V Vin, Adjustable Vout, 5-pin SOT23 (S5-5), -40 to 125 degC, Pb-Free, Tape and Reel; Manufacturer: Linear Technology; PartNumber: LT3014BIS5#TRPBF; Discrete Pass Element: no; Dropout Voltage(V): 0.35; Iout(mA): 20; Isupply(mA): 0.007; Noise(uV): 115; Number of Outputs: 1; Output Voltage: Adj; PSRR(dB): 70; Vin Max(V): 80; Vin Min(V): 3; Vout Max(V): 60; Vout Min(V): 1.22; DatasheetVersion: Rev. A; PackageVersion: Jun-10; PackageReference: S5-5; PackageDescription: 5-Pin Plastic TSOT-23, Body 1.63 x 2.90 mm, Pitch 0.95 mm; Supplier 1: Digi-Key; Supplier Part Number 1: LT3014BIS5#TRPBF-ND; Supplier 2: Newark; Supplier Part Number 2: 01N6446; Packing: Tape and Reel; RoHS: TRUE; Mounting Technology: Surface Mount; Code_JEDEC: MO-193; ComponentLink1Description: Manufacturer URL; ComponentLink1URL: http://www.linear.com/; ComponentLink2Description: Datasheet; ComponentLink2URL: http://cds.linear.com/docs/en/datasheet/3014bfa.pdf; ComponentLink3Description: Package Specification; ComponentLink3URL: http://cds.linear.com/docs/en/packaging/SOT_5_05-08-1635.pdf
footprint LT-S5-5-TSOT-23_N (SOT23, 5-Leads, Body 2.90x1.63mm, Pitch 0.95mm, IPC Medium Density)
footprint LT-S5-5-TSOT-23_L (SOT23, 5-Leads, Body 2.90x1.63mm, Pitch 0.95mm, IPC High Density)
footprint LT-S5-5-TSOT-23_M (SOT23, 5-Leads, Body 2.90x1.63mm, Pitch 0.95mm, IPC Low Density)
pins: 1 IN (power) "Input. Power is supplied to the device through the IN pin. A bypass capacitor is required on this pin if the device is more than six inches away from the main input filter capacitor. In general, the output impedance of a (See Datasheet)", 2 GND (power) "Ground.", 3 NC "No Connect. No Connect pins may be floated, tied to IN or tied to GND.", 4 ADJ (in) "Adjust. This is the input to the error amplifier. This pin is internally clamped to +/-7V. It has a bias current of 4nA which flows into the pin (see curve of ADJ Pin Bias Current vs Temperature in the Typical Performance (See Datasheet)", 5 OUT (power) "Output. The output supplies power to the load. A minimum output capacitor of 0.47uF is required to prevent oscillations. Larger output capacitors will be required for applications with large transient loads to limit peak (See Datasheet)"

## LT3014EDD
designator U?
20 mA, Low Dropout Micropower Linear Regulator, 3 to 80 V Vin, Adjustable Vout, 8-pin SON (DD-8), -40 to 125 degC; Manufacturer: Linear Technology; PartNumber: LT3014EDD; Discrete Pass Element: no; Dropout Voltage(V): 0.35; Iout(mA): 20; Isupply(mA): 0.007; Noise(uV): 115; Number of Outputs: 1; Output Voltage: Adj; PSRR(dB): 70; Vin Max(V): 80; Vin Min(V): 3; Vout Max(V): 60; Vout Min(V): 1.22; DatasheetVersion: Rev. D; PackageVersion: Jun-10; PackageReference: DD-8; PackageDescription: 8-Pin Plastic DFN, Body 3 x 3 mm, Pitch 0.5 mm; RoHS: FALSE; Shutdown Current(uA): 1; Mounting Technology: Surface Mount; Code_JEDEC: MO-229; ComponentLink1Description: Manufacturer URL; ComponentLink1URL: http://www.linear.com/; ComponentLink2Description: Datasheet; ComponentLink2URL: http://cds.linear.com/docs/en/datasheet/3014fd.pdf; ComponentLink3Description: Package Specification; ComponentLink3URL: http://cds.linear.com/docs/en/packaging/DFN_8_05-08-1698.pdf
footprint LT-DD-8_V (SON, 8-Leads, Body 3x3mm, Pitch 0.5mm, Thermal Pad 1.65x2.38 mm, IPC Low Density)
part A pins: 1 OUT (power) "Output. The output supplies power to the load.", 2 ADJ (in) "Adjust. This is the input to the error amplifier.", 4 GND (power) "Ground.", 5 ~{SHDN} (in) "Shutdown. The output will be off when the S\H\D\N\ pin is pulled low. The S\H\D\N\ pin can be driven either by 5V logic or open-collector logic with a pull-up resistor.", 8 IN (power) "Input. Power is supplied to the device through the IN pin. A bypass capacitor is required on this pin if the device is more than six inches away from the main input filter capacitor. In general, the output impedance of a (See Datasheet)", 9 EP (power) "Ground."
part B pins: 3 NC, 6 NC, 7 NC

## LT3014EDD#PBF
designator U?
20 mA, Low Dropout Micropower Linear Regulator, 3 to 80 V Vin, Adjustable Vout, 8-pin SON (DD-8), -40 to 125 degC, Pb-Free; Manufacturer: Linear Technology; PartNumber: LT3014EDD#PBF; Discrete Pass Element: no; Dropout Voltage(V): 0.35; Iout(mA): 20; Isupply(mA): 0.007; Noise(uV): 115; Number of Outputs: 1; Output Voltage: Adj; PSRR(dB): 70; Vin Max(V): 80; Vin Min(V): 3; Vout Max(V): 60; Vout Min(V): 1.22; DatasheetVersion: Rev. D; PackageVersion: Jun-10; PackageReference: DD-8; PackageDescription: 8-Pin Plastic DFN, Body 3 x 3 mm, Pitch 0.5 mm; Supplier 1: Digi-Key; Supplier Part Number 1: LT3014EDD#PBF-ND; Supplier 2: Farnell; Supplier Part Number 2: 1663546; Supplier 3: Newark; Supplier Part Number 3: 57M7903; RoHS: TRUE; Shutdown Current(uA): 1; Mounting Technology: Surface Mount; Code_JEDEC: MO-229; ComponentLink1Description: Manufacturer URL; ComponentLink1URL: http://www.linear.com/; ComponentLink2Description: Datasheet; ComponentLink2URL: http://cds.linear.com/docs/en/datasheet/3014fd.pdf; ComponentLink3Description: Package Specification; ComponentLink3URL: http://cds.linear.com/docs/en/packaging/DFN_8_05-08-1698.pdf
footprint LT-DD-8_V (SON, 8-Leads, Body 3x3mm, Pitch 0.5mm, Thermal Pad 1.65x2.38 mm, IPC Low Density)
part A pins: 1 OUT (power) "Output. The output supplies power to the load.", 2 ADJ (in) "Adjust. This is the input to the error amplifier.", 4 GND (power) "Ground.", 5 ~{SHDN} (in) "Shutdown. The output will be off when the S\H\D\N\ pin is pulled low. The S\H\D\N\ pin can be driven either by 5V logic or open-collector logic with a pull-up resistor.", 8 IN (power) "Input. Power is supplied to the device through the IN pin. A bypass capacitor is required on this pin if the device is more than six inches away from the main input filter capacitor. In general, the output impedance of a (See Datasheet)", 9 EP (power) "Ground."
part B pins: 3 NC, 6 NC, 7 NC

## LT3014EDD#TR
designator U?
20 mA, Low Dropout Micropower Linear Regulator, 3 to 80 V Vin, Adjustable Vout, 8-pin SON (DD-8), -40 to 125 degC, Tape and Reel; Manufacturer: Linear Technology; PartNumber: LT3014EDD#TR; Discrete Pass Element: no; Dropout Voltage(V): 0.35; Iout(mA): 20; Isupply(mA): 0.007; Noise(uV): 115; Number of Outputs: 1; Output Voltage: Adj; PSRR(dB): 70; Vin Max(V): 80; Vin Min(V): 3; Vout Max(V): 60; Vout Min(V): 1.22; DatasheetVersion: Rev. D; PackageVersion: Jun-10; PackageReference: DD-8; PackageDescription: 8-Pin Plastic DFN, Body 3 x 3 mm, Pitch 0.5 mm; Packing: Tape and Reel; RoHS: FALSE; Shutdown Current(uA): 1; Mounting Technology: Surface Mount; Code_JEDEC: MO-229; ComponentLink1Description: Manufacturer URL; ComponentLink1URL: http://www.linear.com/; ComponentLink2Description: Datasheet; ComponentLink2URL: http://cds.linear.com/docs/en/datasheet/3014fd.pdf; ComponentLink3Description: Package Specification; ComponentLink3URL: http://cds.linear.com/docs/en/packaging/DFN_8_05-08-1698.pdf
footprint LT-DD-8_V (SON, 8-Leads, Body 3x3mm, Pitch 0.5mm, Thermal Pad 1.65x2.38 mm, IPC Low Density)
part A pins: 1 OUT (power) "Output. The output supplies power to the load.", 2 ADJ (in) "Adjust. This is the input to the error amplifier.", 4 GND (power) "Ground.", 5 ~{SHDN} (in) "Shutdown. The output will be off when the S\H\D\N\ pin is pulled low. The S\H\D\N\ pin can be driven either by 5V logic or open-collector logic with a pull-up resistor.", 8 IN (power) "Input. Power is supplied to the device through the IN pin. A bypass capacitor is required on this pin if the device is more than six inches away from the main input filter capacitor. In general, the output impedance of a (See Datasheet)", 9 EP (power) "Ground."
part B pins: 3 NC, 6 NC, 7 NC

## LT3014EDD#TRPBF
designator U?
20 mA, Low Dropout Micropower Linear Regulator, 3 to 80 V Vin, Adjustable Vout, 8-pin SON (DD-8), -40 to 125 degC, Pb-Free, Tape and Reel; Manufacturer: Linear Technology; PartNumber: LT3014EDD#TRPBF; Discrete Pass Element: no; Dropout Voltage(V): 0.35; Iout(mA): 20; Isupply(mA): 0.007; Noise(uV): 115; Number of Outputs: 1; Output Voltage: Adj; PSRR(dB): 70; Vin Max(V): 80; Vin Min(V): 3; Vout Max(V): 60; Vout Min(V): 1.22; DatasheetVersion: Rev. D; PackageVersion: Jun-10; PackageReference: DD-8; PackageDescription: 8-Pin Plastic DFN, Body 3 x 3 mm, Pitch 0.5 mm; Supplier 1: Digi-Key; Supplier Part Number 1: LT3014EDD#TRPBF-ND; Packing: Tape and Reel; RoHS: TRUE; Shutdown Current(uA): 1; Mounting Technology: Surface Mount; Code_JEDEC: MO-229; ComponentLink1Description: Manufacturer URL; ComponentLink1URL: http://www.linear.com/; ComponentLink2Description: Datasheet; ComponentLink2URL: http://cds.linear.com/docs/en/datasheet/3014fd.pdf; ComponentLink3Description: Package Specification; ComponentLink3URL: http://cds.linear.com/docs/en/packaging/DFN_8_05-08-1698.pdf
footprint LT-DD-8_V (SON, 8-Leads, Body 3x3mm, Pitch 0.5mm, Thermal Pad 1.65x2.38 mm, IPC Low Density)
part A pins: 1 OUT (power) "Output. The output supplies power to the load.", 2 ADJ (in) "Adjust. This is the input to the error amplifier.", 4 GND (power) "Ground.", 5 ~{SHDN} (in) "Shutdown. The output will be off when the S\H\D\N\ pin is pulled low. The S\H\D\N\ pin can be driven either by 5V logic or open-collector logic with a pull-up resistor.", 8 IN (power) "Input. Power is supplied to the device through the IN pin. A bypass capacitor is required on this pin if the device is more than six inches away from the main input filter capacitor. In general, the output impedance of a (See Datasheet)", 9 EP (power) "Ground."
part B pins: 3 NC, 6 NC, 7 NC

## LT3014ES5
designator U?
20 mA, Low Dropout Micropower Linear Regulator, 3 to 80 V Vin, Adjustable Vout, 5-pin SOT23 (S5-5), -40 to 125 degC; Manufacturer: Linear Technology; PartNumber: LT3014ES5; Discrete Pass Element: no; Dropout Voltage(V): 0.35; Iout(mA): 20; Isupply(mA): 0.007; Noise(uV): 115; Number of Outputs: 1; Output Voltage: Adj; PSRR(dB): 70; Vin Max(V): 80; Vin Min(V): 3; Vout Max(V): 60; Vout Min(V): 1.22; DatasheetVersion: Rev. D; PackageVersion: Jun-10; PackageReference: S5-5; PackageDescription: 5-Pin Plastic TSOT-23, Body 1.63 x 2.90 mm, Pitch 0.95 mm; RoHS: FALSE; Shutdown Current(uA): 1; Mounting Technology: Surface Mount; Code_JEDEC: MO-193; ComponentLink1Description: Manufacturer URL; ComponentLink1URL: http://www.linear.com/; ComponentLink2Description: Datasheet; ComponentLink2URL: http://cds.linear.com/docs/en/datasheet/3014fd.pdf; ComponentLink3Description: Package Specification; ComponentLink3URL: http://cds.linear.com/docs/en/packaging/SOT_5_05-08-1635.pdf
footprint LT-S5-5-TSOT-23_N (SOT23, 5-Leads, Body 2.90x1.63mm, Pitch 0.95mm, IPC Medium Density)
footprint LT-S5-5-TSOT-23_L (SOT23, 5-Leads, Body 2.90x1.63mm, Pitch 0.95mm, IPC High Density)
footprint LT-S5-5-TSOT-23_M (SOT23, 5-Leads, Body 2.90x1.63mm, Pitch 0.95mm, IPC Low Density)
pins: 1 IN (power), 2 GND (power), 3 ~{SHDN} (in), 4 ADJ (in), 5 OUT (power)

## LT3014ES5#PBF
designator U?
20 mA, Low Dropout Micropower Linear Regulator, 3 to 80 V Vin, Adjustable Vout, 5-pin SOT23 (S5-5), -40 to 125 degC, Pb-Free; Manufacturer: Linear Technology; PartNumber: LT3014ES5#PBF; Discrete Pass Element: no; Dropout Voltage(V): 0.35; Iout(mA): 20; Isupply(mA): 0.007; Noise(uV): 115; Number of Outputs: 1; Output Voltage: Adj; PSRR(dB): 70; Vin Max(V): 80; Vin Min(V): 3; Vout Max(V): 60; Vout Min(V): 1.22; DatasheetVersion: Rev. D; PackageVersion: Jun-10; PackageReference: S5-5; PackageDescription: 5-Pin Plastic TSOT-23, Body 1.63 x 2.90 mm, Pitch 0.95 mm; Supplier 1: Farnell; Supplier Part Number 1: 2295248; Supplier 2: Newark; Supplier Part Number 2: 78T3831; RoHS: TRUE; Shutdown Current(uA): 1; Mounting Technology: Surface Mount; Code_JEDEC: MO-193; ComponentLink1Description: Manufacturer URL; ComponentLink1URL: http://www.linear.com/; ComponentLink2Description: Datasheet; ComponentLink2URL: http://cds.linear.com/docs/en/datasheet/3014fd.pdf; ComponentLink3Description: Package Specification; ComponentLink3URL: http://cds.linear.com/docs/en/packaging/SOT_5_05-08-1635.pdf
footprint LT-S5-5-TSOT-23_N (SOT23, 5-Leads, Body 2.90x1.63mm, Pitch 0.95mm, IPC Medium Density)
footprint LT-S5-5-TSOT-23_L (SOT23, 5-Leads, Body 2.90x1.63mm, Pitch 0.95mm, IPC High Density)
footprint LT-S5-5-TSOT-23_M (SOT23, 5-Leads, Body 2.90x1.63mm, Pitch 0.95mm, IPC Low Density)
pins: 1 IN (power), 2 GND (power), 3 ~{SHDN} (in), 4 ADJ (in), 5 OUT (power)